# Altium schematic symbol library Resistors.SchLib: 10 symbols
Pins are listed as number, name and electrical type; pins without a type are passive.

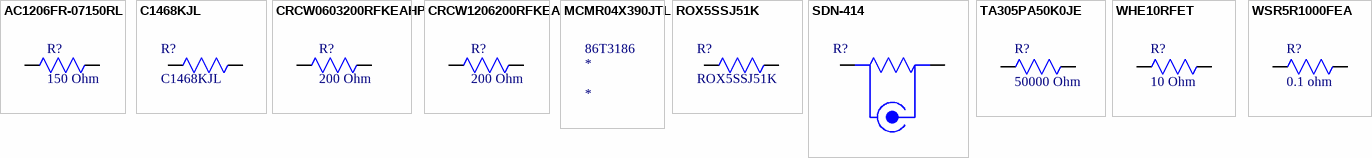
[diagram p0: symbols AC1206FR-07150RL to WSR5R1000FEA]

## AC1206FR-07150RL
designator R?, comment 150 Ohm
RES SMD 150 OHM 1% 1/4W 1206; Manufacturer: Yageo; Manufacturer Part Number: AC1206FR-07150RL; Resistance: 150R; Power Rating: 250mW; Temperature Coefficient: 100ppm/°C; Voltage Rating: 200V; Supplier 1: Digi-Key; RoHS: Yes; Category: Chip SMD Resistors; Stock 1: 30197; Pricing 1: 1=0.10000, 10=0.06900, 100=0.02670, 1000=0.01173, 2500=0.01013 (USD); Case/Package: 1206; Case Code (Metric): 3216; Case Code (Imperial): 1206; Min Operating Temperature: -55°C; Max Operating Temperature: 155°C; Tolerance: 1%; Packaging: Tape and Reel; Resistor Type: Thick Film; Termination: SMD/SMT; Package Quantity: 1; Number of Terminations: 2; Max Power Dissipation: 250mW; Features: Moisture Resistant,Automotive AEC-Q200,Anti-Sulfur; Length: 0.122inch; Width: 0.063inch; Height: 0.026inch; Depth: 1.6mm; Lead Free: Lead Free; Military Standard: Not; Supplier Part Number 1: 311-150LJCT-ND
footprint AC1206FR-07150RL (RES SMD 150 OHM 1% 1/4W 1206)
pins: 1, 2

## C1468KJL
designator R?
TE Connectivity C14 Series Axial Wirewound Resistor 68k 5% 14W 90ppm/C; Temperature Coefficient: 90ppm/°C; Resistance: 68kR; Number of Resistors: 1; Voltage Rating: 650V; Manufacturer: TE Connectivity; Manufacturer Part Number: C1468KJL; RoHS: Yes; Category: Through-Hole Resistors; Stock 1: 68; Pricing 1: 1=4,22000, 10=3,81300, 25=3,48840, 50=3,24500, 100=2,83930, 250=2,43372, 500=2,23092, 1000=2,04432, 5000=1,94698 (USD); Mount: Axial; Case/Package: Conformal; Termination: Axial; Tolerance: 5%; Power Rating: 14W; Packaging: Tray; Composition: Wirewound,Power resistor; Number of Terminations: 2; Package Quantity: 100; Diameter: 8.5mm; Length: 53.3mm; ELV: Compliant; ComponentLink1URL: http://uk.rs-online.com/webdocs/0ce7/0900766b80ce7a55.pdf?src-supplier=RSComponents; ComponentLink1Description: http://uk.rs-online.com/webdocs/0ce7/0900766b80ce7a55.pdf?src-supplier=RSComponents; ComponentLink2URL: http://www.onlinecomponents.com/datasheet/c1468kjl.aspx?p=43745982&src-supplier=Onlinecomponents.com; ComponentLink2Description: http://www.onlinecomponents.com/datasheet/c1468kjl.aspx?p=43745982&src-supplier=Onlinecomponents.com; ComponentLink3URL: https://www.alliedelec.com/m/d/875e624646352a199a999fbfc5085155.pdf?src-supplier=Allied+Electronics; ComponentLink3Description: https://www.alliedelec.com/m/d/875e624646352a199a999fbfc5085155.pdf?src-supplier=Allied+Electronics; ComponentLink4URL: http://www.mouser.com/ds/2/418/NG_CD_1623774_BA1-686629.pdf?src-supplier=Mouser; ComponentLink4Description: http://www.mouser.com/ds/2/418/NG_CD_1623774_BA1-686629.pdf?src-supplier=Mouser; ComponentLink5URL: http://docs-usa.electrocomponents.com/techlib:/itc_doclist_US.htm?stockno=6661673&src-supplier=Allied+Electronics; ComponentLink5Description: http://docs-usa.electrocomponents.com/techlib:/itc_doclist_US.htm?stockno=6661673&src-supplier=Allied+Electronics; Supplier 1: Digi-Key; Supplier 2: Digi-Key; Supplier 3: RSComponents; Supplier 4: Newark; Supplier 5: Mouser; Supplier 6: Farnell; Supplier Part Number 6: 2805154; Supplier Part Number 5: 279-C1468KJL; Supplier Part Number 4: 43AC3077; Supplier Part Number 3: 6661673; Supplier Part Number 2: A129327-ND; Supplier Part Number 1: A129327-ND
footprint RES_C14XXXX (Type C14 Series High power resistor)
pins: 1, 2

## CRCW0603200RFKEAHP
designator R?, comment 200 Ohm
CRCW0603200RFKEAHP / Res Thick Film 0603 200 Ohm 1% 0.25W(1/4W) ±100ppm/C Pad SMD Automotive T/R; Manufacturer: Vishay Dale; Resistance: 200R; Power Rating: 250mW; Temperature Coefficient: 100ppm/°C; Supplier 1: Digi-Key; Manufacturer Part Number: CRCW0603200RFKEAHP; RoHS: Yes; Category: Chip SMD Resistors; Stock 1: 59007; Pricing 1: 1=0.15000, 10=0.12900, 100=0.05030, 1000=0.02106, 2500=0.01930 (USD); Mount: Surface Mount; Case/Package: 0603; Case Code (Imperial): 0603; Case Code (Metric): 1608; Contact Plating: Tin; Min Operating Temperature: -55°C; Max Operating Temperature: 155°C; Features: Automotive AEC-Q200; Tolerance: 1%; Packaging: Tape and Reel; Resistor Type: Thick Film; Max Power Dissipation: 250mW; Number of Terminations: 2; Package Quantity: 5000; Length: 0.063inch; Width: 0.033inch; Height: 0.022inch; Radiation Hardening: No; Lead Free: Lead Free; ComponentLink1URL: https://datasheet.ciiva.com/2578/crcwhpe3-2578537.pdf?src-supplier=Digi-Key; ComponentLink1Description: https://datasheet.ciiva.com/2578/crcwhpe3-2578537.pdf?src-supplier=Digi-Key; ComponentLink2URL: https://datasheet.ciiva.com/8961/crcwhpe3-8961129.pdf?src-supplier=Avnet; ComponentLink2Description: https://datasheet.ciiva.com/8961/crcwhpe3-8961129.pdf?src-supplier=Avnet; Supplier Part Number 1: 541-200SCT-ND
footprint CRCW0603200RFKEAHP (RES SMD 200 OHM 1% 1/3W 0603)
pins: 1, 2

## CRCW1206200RFKEA
designator R?, comment 200 Ohm
VISHAY - CRCW1206200RFKEA - RES, THICK FILM, 200R, 1%, 0.25W, 1206, REEL; Power Rating: 250mW; Temperature Coefficient: 100ppm/°C; Voltage Rating: 200V; Supplier 1: Digi-Key; Manufacturer: Vishay; Manufacturer Part Number: CRCW1206200RFKEA; RoHS: Yes; Category: Chip SMD Resistors; Stock 1: 26949; Pricing 1: 1=0.10000, 10=0.06900, 100=0.02660, 1000=0.01170, 2500=0.01011 (USD); Case/Package: 1206; Number of Pins: 2; Case Code (Imperial): 1206; Case Code (Metric): 3216; Contact Plating: Tin; Weight: 0.000353oz; Min Operating Temperature: -55°C; Max Operating Temperature: 155°C; Tolerance: 1%; Resistance: 200R; Packaging: Tape and Reel; Termination: SMD/SMT; Resistor Type: Thick Film; Package Quantity: 10; Voltage Rating (DC): 200V; Number of Terminations: 2; Max Power Dissipation: 250mW; Features: Automotive AEC-Q200; Working Voltage: 200V; Length: 3.2mm; Width: 1.6mm; Height: 0.55mm; Depth: 1.6mm; Radiation Hardening: No; Lead Free: Lead Free; Military Standard: Not; REACH SVHC: Unknown; ComponentLink1URL: https://datasheet.ciiva.com/7673/1697337-7673382.pdf?src-supplier=Element14; ComponentLink1Description: https://datasheet.ciiva.com/7673/1697337-7673382.pdf?src-supplier=Element14; ComponentLink2URL: https://datasheet.ciiva.com/5551/dcrcwe3-109170-5551271.pdf?src-supplier=Mouser; ComponentLink2Description: https://datasheet.ciiva.com/5551/dcrcwe3-109170-5551271.pdf?src-supplier=Mouser; ComponentLink3URL: https://datasheet.ciiva.com/7180/1533075-7180860.pdf?src-supplier=Newark; ComponentLink3Description: https://datasheet.ciiva.com/7180/1533075-7180860.pdf?src-supplier=Newark; ComponentLink4URL: https://datasheet.ciiva.com/16200/dcrcwe3-16200140.pdf?src-supplier=Future+Electronics; ComponentLink4Description: https://datasheet.ciiva.com/16200/dcrcwe3-16200140.pdf?src-supplier=Future+Electronics; ComponentLink5URL: https://datasheet.ciiva.com/22675/1912744-22675101.pdf?src-supplier=Element14; ComponentLink5Description: https://datasheet.ciiva.com/22675/1912744-22675101.pdf?src-supplier=Element14; ComponentLink6URL: https://datasheet.ciiva.com/8959/dcrcwe3-8959976.pdf?src-supplier=Avnet; ComponentLink6Description: https://datasheet.ciiva.com/8959/dcrcwe3-8959976.pdf?src-supplier=Avnet; ComponentLink7URL: https://datasheet.ciiva.com/8959/dcrcwe3-8959978.pdf?src-supplier=Avnet; ComponentLink7Description: https://datasheet.ciiva.com/8959/dcrcwe3-8959978.pdf?src-supplier=Avnet; ComponentLink8URL: https://datasheet.ciiva.com/2468/dcrcwe3-2468717.pdf?src-supplier=Digi-Key; ComponentLink8Description: https://datasheet.ciiva.com/2468/dcrcwe3-2468717.pdf?src-supplier=Digi-Key; ComponentLink9URL: https://datasheet.ciiva.com/16758/70201119-16758957.pdf?src-supplier=Allied+Electronics; ComponentLink9Description: https://datasheet.ciiva.com/16758/70201119-16758957.pdf?src-supplier=Allied+Electronics; Supplier Part Number 1: 541-200FCT-ND
footprint CRCW1206200RFKEA (RES SMD 200 OHM 1% 1/4W 1206)
pins: 1, 2

## MCMR04X390JTL
designator *  Supplier Part Number 1: 86T3186
RESISTOR, ANTI SULFUR, 39R, 0402, 5%; Manufacturer: Multicomp; Manufacturer Part Number: MCMR04X390JTL; Power Rating: 62.5mW; Voltage Rating: 50V; Temperature Coefficient: 100ppm/°C; Supplier 1: Newark; RoHS: Yes; Category: Chip SMD Resistors; Pricing 1: 10=0.02300, 25=0.01800, 50=0.01400 (USD); Case/Package: 0402; Case Code (Metric): 1005; Case Code (Imperial): 0402; Resistance: 39R; Tolerance: 5%; Packaging: Cut Tape; Resistor Type: Ceramic; Voltage Rating (DC): 50V; REACH SVHC: No SVHC; ComponentLink1URL: https://datasheet.ciiva.com/7791/1716706-7791534.pdf?src-supplier=Element14; ComponentLink1Description: https://datasheet.ciiva.com/7791/1716706-7791534.pdf?src-supplier=Element14; ComponentLink2URL: https://datasheet.ciiva.com/28665/1716706-28665711.pdf?src-supplier=Element14; ComponentLink2Description: https://datasheet.ciiva.com/28665/1716706-28665711.pdf?src-supplier=Element14

## ROX5SSJ51K
designator R?
Metal Oxide Resistors 5W XSM M/OX 5% 51K; Manufacturer: TE Connectivity; Value: 51 kOhm; Manufacturer Part Number: ROX5SSJ51K; RoHS: No; Stock 1: 846; Pricing 1: 1=0,66000, 10=0,54900, 25=0,47080, 50=0,42360, 100=0,36880, 250=0,32952 (USD); Power: 5 W; Tolerance: 5 %; Length: 17.5 mm; Diameter: 6.5 mm; Supplier 1: Digi-Key; Supplier 2: Digi-Key; Supplier 3: RSComponents; Supplier 4: Mouser; Supplier 5: Farnell; Supplier Part Number 5: 3229952; Supplier Part Number 4: 279-ROX5SSJ51K; Supplier Part Number 3: 1869581; Supplier Part Number 2: A142841TB-ND; Supplier Part Number 1: A142841CT-ND
footprint RES_ROX5SS (ROX5SS resistor)
pins: 1, 2

## SDN-414
designator R?  (value not drawn)
Coaxial current shunt SDN-414 T&M (New); Manufacturer: Ohmite; Manufacturer Part Number: WHE10RFET; Resistance: 10R; Power Rating: 5W; Tolerance: 1%; Temperature Coefficient: 50ppm/°C; Lead Diameter: 1mm; Supplier 1: Digi-Key; RoHS: Yes; Category: Through-Hole Resistors; Stock 1: 228; Pricing 1: 1=1.54000, 10=1.36400, 25=1.25400, 50=1.14400, 100=0.99000, 250=0.83600 (USD); Case/Package: Axial; Number of Pins: 2; Weight: 0.080848oz; Min Operating Temperature: -55°C; Max Operating Temperature: 150°C; Number of Terminations: 2; Termination: Axial; Package Quantity: 500; Packaging: Tape and Reel; Composition: Wirewound; Max Power Dissipation: 5W; Diameter: 7.5mm; Length: 20mm; REACH SVHC: Unknown; ComponentLink1URL: https://datasheet.ciiva.com/5635/res-wh-wn-5635598.pdf?src-supplier=Mouser; ComponentLink1Description: https://datasheet.ciiva.com/5635/res-wh-wn-5635598.pdf?src-supplier=Mouser; ComponentLink2URL: https://datasheet.ciiva.com/6495/res-wh-wn-6495224.pdf?src-supplier=Digi-Key; ComponentLink2Description: https://datasheet.ciiva.com/6495/res-wh-wn-6495224.pdf?src-supplier=Digi-Key; ComponentLink3URL: https://datasheet.ciiva.com/6495/res-wh-wn-6495226.pdf?src-supplier=Digi-Key; ComponentLink3Description: https://datasheet.ciiva.com/6495/res-wh-wn-6495226.pdf?src-supplier=Digi-Key; Supplier Part Number 1: WHE10RFETCT-ND
footprint SDN-414
pins: 1 -, 2 +

## TA305PA50K0JE
designator R?  Resistance: 50000 Ohm  (hidden comment: TA305PA50K0JE)
Thick Film Resistors - Through Hole 5watt 50K 5% High Power; Vendor: Ohmite; Built_By: EMA_UL_Team; Power Rating: 5 W; Manufacturer_Part_Number: TA305PA50K0JE; Copyright: Copyright (C) 2018 Accelerated Designs. All rights reserved; RefDes: RefDes; Type: DEV; Value: Value; Supplier 1: Mouser; Supplier 2: Digi-Key; Supplier 3: Newark; Supplier Part Number 3: 64K6670; Supplier Part Number 2: TA305PA50K0JE-ND; Supplier Part Number 1: 588-TA305PA50K0JE
footprint RES_305PA (Thick Film Resistors PA - Through Hole 5W High Power)
pins: 1, 2

## WHE10RFET
designator R?  Resistance: 10 Ohm  (hidden comment: WHE10RFET)
Wirewound Resistors - Through Hole 5W 10 ohm 1%; Vendor: Ohmite; Built_By: EMA_UL_Team; Manufacturer_Part_Number: WHE10RFET; Copyright: Copyright (C) 2018 Accelerated Designs. All rights reserved; RefDes: RefDes; Type: DEV; Value: Value; Power rating: 5 W; Tolerance: 1%; Supplier 1: Digi-Key; Supplier 2: Mouser; Supplier 3: Farnell; Supplier 4: Newark; Supplier Part Number 1: WHE10RFETCT-ND; Supplier Part Number 2: 588-WHE10RFET; Supplier Part Number 3: 2099554; Supplier Part Number 4: 13T1795
footprint RES_WH/NE (Wirewound Resistors - Through Hole 5W 10 ohm 1%)
pins: 1, 2

## WSR5R1000FEA
designator R?  Resistance: 0.1 ohm  (hidden comment: WSR5R1000FEA)
RES 0.1 OHM 1% 5W 4527; Vendor: Vishay; Built_By: EMA_UL_Team; Value: 0.1ohm; Manufacturer_Part_Number: WSR5R1000FEA; Copyright: Copyright (C) 2018 Accelerated Designs. All rights reserved; RefDes: RefDes; Type: DEV
footprint WSR
footprint WSR-L
footprint WSR-M
pins: 1, 2